# Altium footprint library 7.接插件封装.PcbLib: 201 footprints (part 8 of 13)
Each footprint in its own frame and in the unit in brackets; x right, y up, seen from the top. Pads: shape width x height; smd on the part's side, far side on the other; paste and mask are expansions set on the pad; w line width, h text height; cw(c..) or ccw(c..) is an arc to the next point about the centre after c.
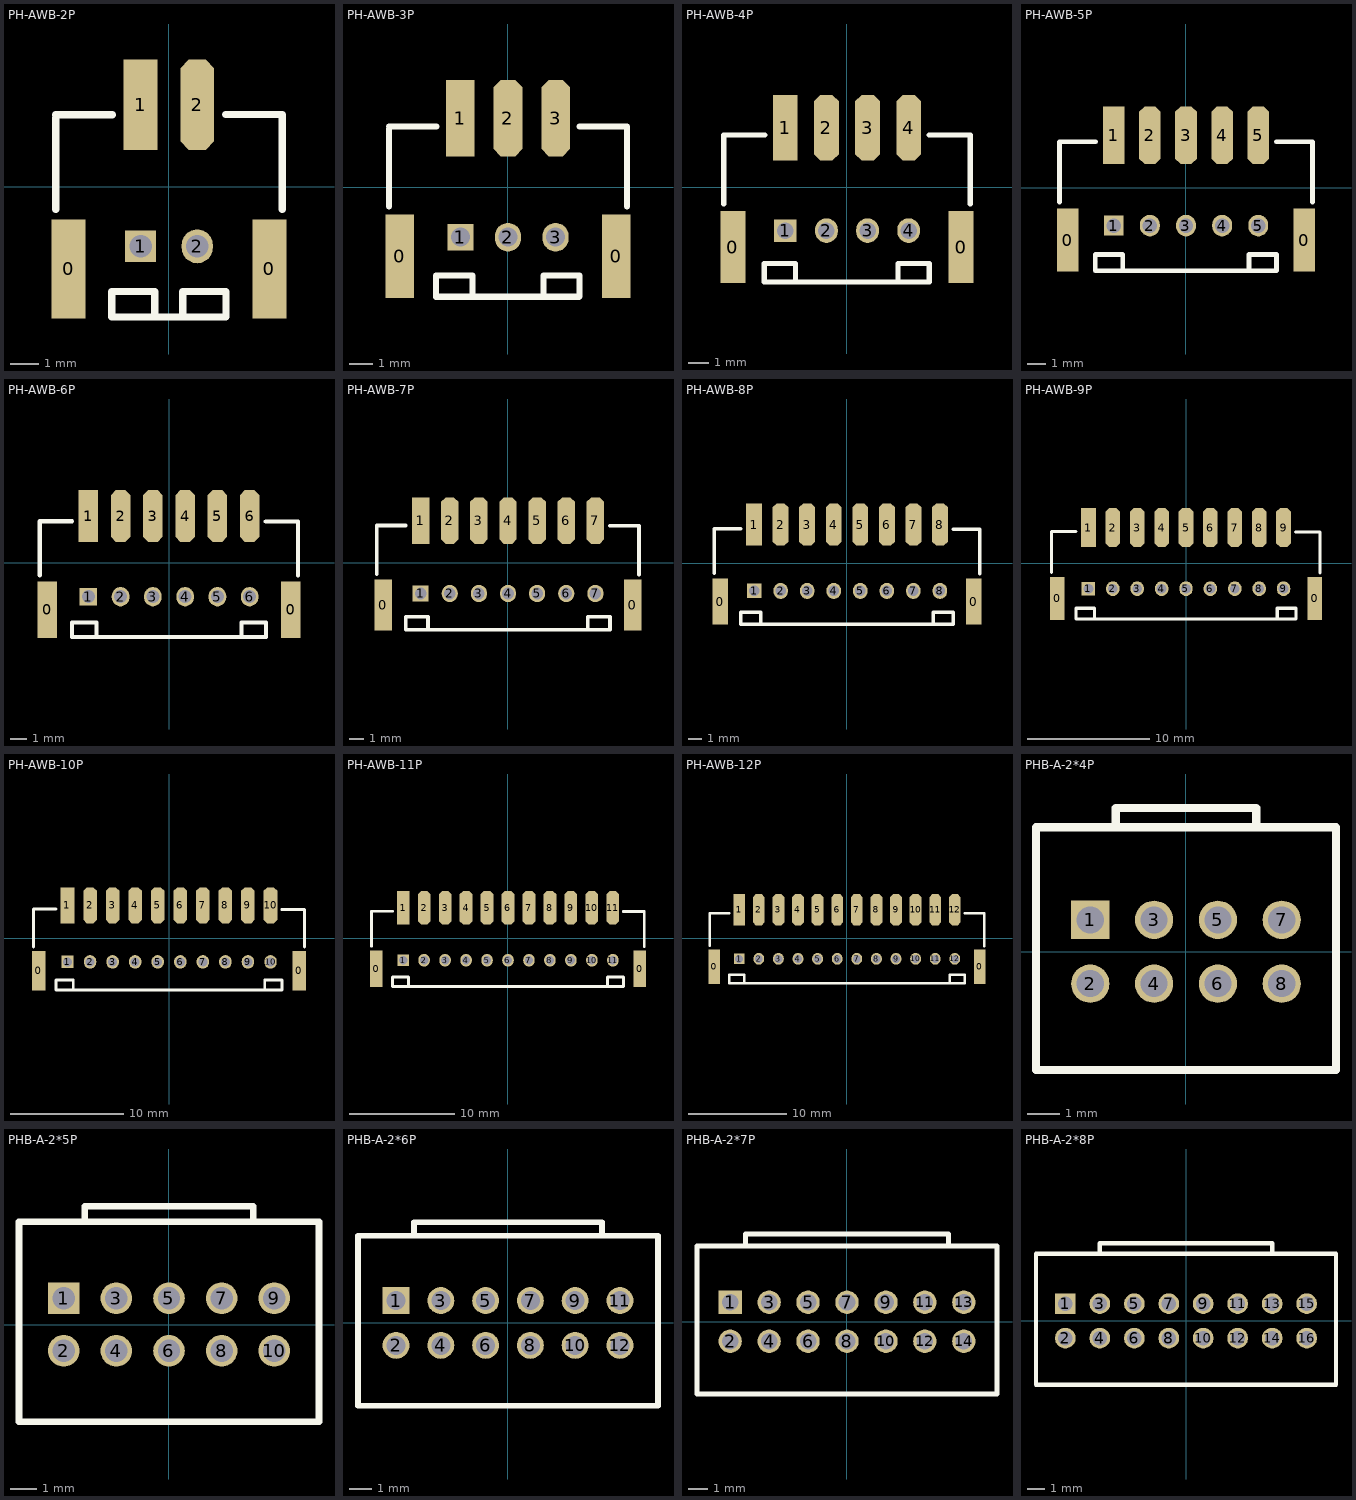
[diagram p7: the footprints below, top view; thin cyan lines are the x and y axes]

## PH-AWB-2P [mm]
height 6
pads (6):
  rect 1.2x3.5 smd: 0(-3.551,-2.9) 0(3.551,-2.896)
  rect 1.1x1.1 hole 0.8: 1(-1.001,-2.1)
  rect 1.2x3.2 smd: 1(-1.001,2.9)
  oval 1.1x1.2 hole 0.8: 2(0.999,-2.1)
  oct 1.2x3.2 smd: 2(0.999,2.9)
Top Overlay:
  lines w0.254: -4.001,-0.8 -4.001,2.45 ; -4.001,2.55 -2.001,2.55 ; -0.501,-4.6 -0.501,-3.7 -2.025,-3.7 -2.025,-4.6 1.999,-4.6 ; 0.485,-4.596 0.485,-3.696 2.009,-3.696 2.009,-4.596 ; 2.001,2.554 4.001,2.554 4.001,-0.796

## PH-AWB-3P [mm]
pads (8):
  rect 1.2x3.5 smd: 0(-4.55,-2.9) 0(4.55,-2.9)
  rect 1.1x1.1 hole 0.8: 1(-2,-2.1)
  rect 1.2x3.2 smd: 1(-2,2.9)
  oval 1.1x1.2 hole 0.8: 2(0,-2.1) 3(2,-2.1)
  oct 1.2x3.2 smd: 2(0,2.9) 3(2,2.9)
Top Overlay:
  lines w0.254: -5,-0.8 -5,2.45 ; -5,2.55 -3,2.55 ; -1.5,-4.6 -1.5,-3.7 -3.024,-3.7 -3.024,-4.6 2.988,-4.6 3.008,-4.58 3.008,-3.7 1.484,-3.7 1.484,-4.6 ; 3,2.55 5,2.55 5,-0.8

## PH-AWB-4P [mm]
height 6
pads (10):
  rect 1.2x3.5 smd: 0(-5.55,-2.9) 0(5.55,-2.9)
  rect 1.1x1.1 hole 0.8: 1(-3,-2.1)
  rect 1.2x3.2 smd: 1(-3,2.9)
  oval 1.1x1.2 hole 0.8: 2(-1,-2.1) 3(1,-2.1) 4(3,-2.1)
  oct 1.2x3.2 smd: 2(-1,2.9) 3(1,2.9) 4(3,2.9)
Top Overlay:
  lines w0.254: -6,-0.8 -6,2.45 ; -6,2.55 -4,2.55 ; -2.5,-4.6 -2.5,-3.7 -4.024,-3.7 -4.024,-4.6 4.008,-4.6 4.008,-3.7 2.484,-3.7 2.484,-4.6 ; 4,2.55 6,2.55 6,-0.8

## PH-AWB-5P [mm]
pads (12):
  rect 1.2x3.5 smd: 0(-6.55,-2.9) 0(6.55,-2.9)
  rect 1.1x1.1 hole 0.8: 1(-4,-2.1)
  rect 1.2x3.2 smd: 1(-4,2.9)
  oval 1.1x1.2 hole 0.8: 2(-2,-2.1) 3(0,-2.1) 4(2,-2.1) 5(4,-2.1)
  oct 1.2x3.2 smd: 2(-2,2.9) 3(0,2.9) 4(2,2.9) 5(4,2.9)
Top Overlay:
  lines w0.254: -7,-0.8 -7,2.45 ; -7,2.55 -5,2.55 ; -3.5,-4.6 -3.5,-3.7 -5.024,-3.7 -5.024,-4.6 5.008,-4.6 5.008,-3.7 3.484,-3.7 3.484,-4.6 ; 5,2.55 7,2.55 7,-0.8

## PH-AWB-6P [mm]
height 6
pads (14):
  rect 1.2x3.5 smd: 0(-7.55,-2.9) 0(7.55,-2.9)
  rect 1.1x1.1 hole 0.8: 1(-5,-2.1)
  rect 1.2x3.2 smd: 1(-5,2.9)
  oval 1.1x1.2 hole 0.8: 2(-3,-2.1) 3(-1,-2.1) 4(1,-2.1) 5(3,-2.1) 6(5,-2.1)
  oct 1.2x3.2 smd: 2(-3,2.9) 3(-1,2.9) 4(1,2.9) 5(3,2.9) 6(5,2.9)
Top Overlay:
  lines w0.254: -8.013,-0.775 -8.013,2.575 -6.013,2.575 ; -4.488,-4.6 -4.488,-3.7 -6.012,-3.7 -6.012,-4.6 6.008,-4.6 6.008,-3.7 4.484,-3.7 4.484,-4.6 ; 6,2.55 8,2.55 8,-0.8

## PH-AWB-7P [mm]
pads (16):
  rect 1.2x3.5 smd: 0(-8.55,-2.9) 0(8.55,-2.9)
  rect 1.1x1.1 hole 0.8: 1(-6,-2.1)
  rect 1.2x3.2 smd: 1(-6,2.9)
  oval 1.1x1.2 hole 0.8: 2(-4,-2.1) 3(-2,-2.1) 4(0,-2.1) 5(2,-2.1) 6(4,-2.1) 7(6,-2.1)
  oct 1.2x3.2 smd: 2(-4,2.9) 3(-2,2.9) 4(0,2.9) 5(2,2.9) 6(4,2.9) 7(6,2.9)
Top Overlay:
  lines w0.254: -9.013,-0.775 -9.013,2.575 -7.013,2.575 ; -5.488,-4.6 -5.488,-3.7 -7.012,-3.7 -7.012,-4.6 7.008,-4.6 7.008,-3.7 5.484,-3.7 5.484,-4.6 ; 7,2.55 9,2.55 9,-0.8

## PH-AWB-8P [mm]
pads (18):
  rect 1.2x3.5 smd: 0(-9.55,-2.9) 0(9.55,-2.9)
  rect 1.1x1.1 hole 0.8: 1(-7,-2.1)
  rect 1.2x3.2 smd: 1(-7,2.9)
  oval 1.1x1.2 hole 0.8: 2(-5,-2.1) 3(-3,-2.1) 4(-1,-2.1) 5(1,-2.1) 6(3,-2.1) 7(5,-2.1) 8(7,-2.1)
  oct 1.2x3.2 smd: 2(-5,2.9) 3(-3,2.9) 4(-1,2.9) 5(1,2.9) 6(3,2.9) 7(5,2.9) 8(7,2.9)
Top Overlay:
  lines w0.254: -10.013,-0.775 -10.013,2.575 -8.013,2.575 ; -6.488,-4.6 -6.488,-3.7 -8.012,-3.7 -8.012,-4.6 8.008,-4.6 ; 6.484,-4.6 6.484,-3.7 8.008,-3.7 8.008,-4.6 ; 8,2.55 10,2.55 10,-0.8

## PH-AWB-9P [mm]
pads (20):
  rect 1.2x3.5 smd: 0(-10.55,-2.9) 0(10.55,-2.9)
  rect 1.1x1.1 hole 0.8: 1(-8,-2.1)
  rect 1.2x3.2 smd: 1(-8,2.9)
  oval 1.1x1.2 hole 0.8: 2(-6,-2.1) 3(-4,-2.1) 4(-2,-2.1) 5(0,-2.1) 6(2,-2.1) 7(4,-2.1) 8(6,-2.1) 9(8,-2.1)
  oct 1.2x3.2 smd: 2(-6,2.9) 3(-4,2.9) 4(-2,2.9) 5(0,2.9) 6(2,2.9) 7(4,2.9) 8(6,2.9) 9(8,2.9)
Top Overlay:
  lines w0.254: -11.013,-0.775 -11.013,2.575 -9.013,2.575 ; -7.488,-4.6 -7.488,-3.7 -9.012,-3.7 -9.012,-4.6 9.008,-4.6 9.008,-3.7 7.484,-3.7 7.484,-4.6 ; 9,2.55 11,2.55 11,-0.8

## PH-AWB-10P [mm]
pads (22):
  rect 1.2x3.5 smd: 0(-11.55,-2.9) 0(11.55,-2.9)
  rect 1.1x1.1 hole 0.8: 1(-9,-2.1)
  rect 1.2x3.2 smd: 1(-9,2.9)
  oval 1.1x1.2 hole 0.8: 2(-7,-2.1) 3(-5,-2.1) 4(-3,-2.1) 5(-1,-2.1) 6(1,-2.1) 7(3,-2.1) 8(5,-2.1) 9(7,-2.1) 10(9,-2.1)
  oct 1.2x3.2 smd: 2(-7,2.9) 3(-5,2.9) 4(-3,2.9) 5(-1,2.9) 6(1,2.9) 7(3,2.9) 8(5,2.9) 9(7,2.9) 10(9,2.9)
Top Overlay:
  lines w0.254: -12.013,-0.775 -12.013,2.575 -10.013,2.575 ; -8.488,-4.6 -8.488,-3.7 -10.012,-3.7 -10.012,-4.6 10.008,-4.6 10.008,-3.7 8.484,-3.7 8.484,-4.6 ; 10,2.55 12,2.55 12,-0.8

## PH-AWB-11P [mm]
pads (24):
  rect 1.2x3.5 smd: 0(-12.55,-2.9) 0(12.55,-2.9)
  rect 1.1x1.1 hole 0.8: 1(-10,-2.1)
  rect 1.2x3.2 smd: 1(-10,2.9)
  oval 1.1x1.2 hole 0.8: 2(-8,-2.1) 3(-6,-2.1) 4(-4,-2.1) 5(-2,-2.1) 6(0,-2.1) 7(2,-2.1) 8(4,-2.1) 9(6,-2.1) 10(8,-2.1) 11(10,-2.1)
  oct 1.2x3.2 smd: 2(-8,2.9) 3(-6,2.9) 4(-4,2.9) 5(-2,2.9) 6(0,2.9) 7(2,2.9) 8(4,2.9) 9(6,2.9) 10(8,2.9) 11(10,2.9)
Top Overlay:
  lines w0.254: -13.013,-0.775 -13.013,2.575 -11.013,2.575 ; -9.488,-4.6 -9.488,-3.7 -11.012,-3.7 -11.012,-4.6 11.008,-4.6 11.008,-3.7 9.484,-3.7 9.484,-4.6 ; 11,2.55 13,2.55 13,-0.8

## PH-AWB-12P [mm]
pads (26):
  rect 1.2x3.5 smd: 0(-13.55,-2.9) 0(13.55,-2.9)
  rect 1.1x1.1 hole 0.8: 1(-11,-2.1)
  rect 1.2x3.2 smd: 1(-11,2.9)
  oval 1.1x1.2 hole 0.8: 2(-9,-2.1) 3(-7,-2.1) 4(-5,-2.1) 5(-3,-2.1) 6(-1,-2.1) 7(1,-2.1) 8(3,-2.1) 9(5,-2.1) 10(7,-2.1) 11(9,-2.1) 12(11,-2.1)
  oct 1.2x3.2 smd: 2(-9,2.9) 3(-7,2.9) 4(-5,2.9) 5(-3,2.9) 6(-1,2.9) 7(1,2.9) 8(3,2.9) 9(5,2.9) 10(7,2.9) 11(9,2.9) 12(11,2.9)
Top Overlay:
  lines w0.254: -14.013,-0.775 -14.013,2.575 -12.013,2.575 ; -10.488,-4.6 -10.488,-3.7 -12.012,-3.7 -12.012,-4.6 12.008,-4.6 12.008,-3.7 10.484,-3.7 10.484,-4.6 ; 12,2.55 14,2.55 14,-0.8

## PHB-A-2*4P [mm]
pads (8):
  rect 1.2x1.2 hole 0.85: 1(-3,1)
  round 1.2 hole 0.85: 2(-3,-1) 3(-1,1) 4(-1,-1) 5(1,1) 6(1,-1) 7(3,1) 8(3,-1)
Top Overlay:
  lines w0.254: -2.2,3.9 -2.2,4.5 2.2,4.5 2.2,3.9 ; -4.7,-3.7 4.7,-3.7 4.7,3.9 -4.7,3.9 -4.7,-3.7

## PHB-A-2*5P [mm]
pads (10):
  rect 1.2x1.2 hole 0.85: 1(-4,1)
  round 1.2 hole 0.85: 2(-4,-1) 3(-2,1) 4(-2,-1) 5(0,1) 6(0,-1) 7(2,1) 8(2,-1) 9(4,1) 10(4,-1)
Top Overlay:
  lines w0.254: -3.2,3.9 -3.2,4.5 3.2,4.5 3.2,3.9 ; -5.7,-3.7 5.7,-3.7 5.7,3.9 -5.7,3.9 -5.7,-3.7

## PHB-A-2*6P [mm]
pads (12):
  rect 1.2x1.2 hole 0.85: 1(-5,1)
  round 1.2 hole 0.85: 2(-5,-1) 3(-3,1) 4(-3,-1) 5(-1,1) 6(-1,-1) 7(1,1) 8(1,-1) 9(3,1) 10(3,-1) 11(5,1) 12(5,-1)
Top Overlay:
  lines w0.254: -4.2,3.9 -4.2,4.5 4.2,4.5 4.2,3.9 ; -6.7,-3.7 -6.7,3.9 6.7,3.9 6.7,-3.7 -6.7,-3.7

## PHB-A-2*7P [mm]
pads (14):
  rect 1.2x1.2 hole 0.85: 1(-6,1)
  round 1.2 hole 0.85: 2(-6,-1) 3(-4,1) 4(-4,-1) 5(-2,1) 6(-2,-1) 7(0,1) 8(0,-1) 9(2,1) 10(2,-1) 11(4,1) 12(4,-1) 13(6,1) 14(6,-1)
Top Overlay:
  lines w0.254: -5.2,3.9 -5.2,4.5 5.2,4.5 5.2,3.9 ; -7.7,-3.7 7.7,-3.7 7.7,3.9 -7.7,3.9 -7.7,-3.7

## PHB-A-2*8P [mm]
pads (16):
  rect 1.2x1.2 hole 0.85: 1(-7,1)
  round 1.2 hole 0.85: 2(-7,-1) 3(-5,1) 4(-5,-1) 5(-3,1) 6(-3,-1) 7(-1,1) 8(-1,-1) 9(1,1) 10(1,-1) 11(3,1) 12(3,-1) 13(5,1) 14(5,-1) 15(7,1) 16(7,-1)
Top Overlay:
  lines w0.254: -5,3.9 -5,4.5 5,4.5 5,3.9 ; -8.7,-3.7 8.7,-3.7 8.7,3.9 -8.7,3.9 -8.7,-3.7